# EAGLE library part ITSY-M0-EXP-NE (library Adafruit_Modules)
Adafruit ItstBitsy M0 - No End (ATSAMD21G18 32-bit Cortex M0+ @ 48mHz)) 5 End pins removed for easier routing
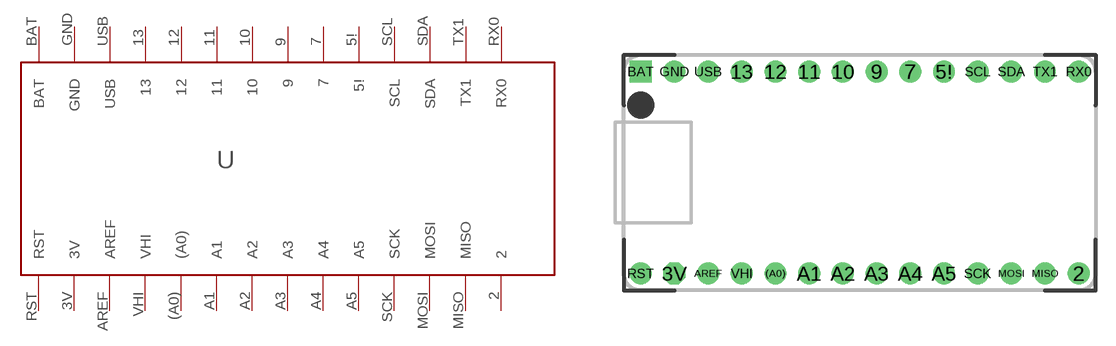
[diagram p10: symbol with the pads of ITSY-M0-NOEND; footprint ITSY-M0-NOEND]

Designator prefix -

## ITSY-M0-EXP-NE (ADAFRUIT: 3727)  [ITSY-M0-NOEND]
2  2
3V  3V  out
5!  5!
7  7
9  9
10  10
11  11
12  12
13  13
(A0)  (A0)
A1  A1
A2  A2
A3  A3
A4  A4
A5  A5
AREF  AREF  in
BAT  BAT  pwr
GND  GND  pwr
MISO  MISO
MOSI  MOSI
RST  RST  pas
RX0  RX0
SCK  SCK
SCL  SCL
SDA  SDA
TX1  TX1
USB  USB  out
VHI  VHI  out

## Footprint ITSY-M0-NOEND (pad centres in mm)
Adafruit Itsy Bitsy M0 (No end pins)
drill 1.1: 2 10.16,-7.62; 5! 0,7.62; 7 -2.54,7.62; 9 -5.08,7.62; 10 -7.62,7.62; 11 -10.16,7.62; 12 -12.7,7.62; 13 -15.24,7.62; (A0) -12.7,-7.62; A1 -10.16,-7.62; A2 -7.62,-7.62; A3 -5.08,-7.62; A4 -2.54,-7.62; A5 0,-7.62; AREF -17.78,-7.62; GND -20.32,7.62; MISO 7.62,-7.62; MOSI 5.08,-7.62; RST -22.86,-7.62; RX0 10.16,7.62; SCK 2.54,-7.62; SCL 2.54,7.62; SDA 5.08,7.62; TX1 7.62,7.62; USB -17.78,7.62; VHI -15.24,-7.62
drill 1.1 octagon: 3V -20.32,-7.62
drill 1.1 square: BAT -22.86,7.62